# Altium footprint library TMC6140.PcbLib: 1 footprints
Each footprint in its own frame and in the unit in brackets; x right, y up, seen from the top. Pads: shape width x height; smd on the part's side, far side on the other; paste and mask are expansions set on the pad; w line width, h text height; cw(c..) or ccw(c..) is an arc to the next point about the centre after c.
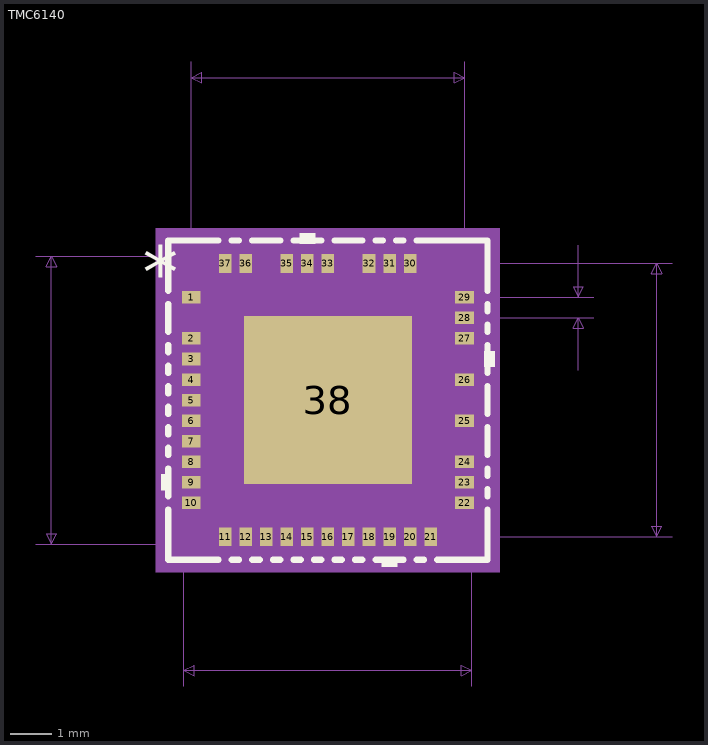
[diagram p0: the footprint, top view; thin cyan lines are the x and y axes]

## TMC6140 [mil]
pads (38):
  rect 18x12 smd paste-6 mask+0: 1(2024.09,1778.45) 2(2024.09,1739.07) 3(2024.09,1719.38) 4(2024.09,1699.69) 5(2024.09,1680) 6(2024.09,1660.31) 7(2024.09,1640.62) 8(2024.09,1620.93) 9(2024.09,1601.24) 10(2024.09,1581.55) 22(2285.91,1581.55) 23(2285.91,1601.24) 24(2285.91,1620.93) 25(2285.91,1660.31) 26(2285.91,1699.69) 27(2285.91,1739.07) 28(2285.91,1758.76) 29(2285.91,1778.45)
  rect 12x18 smd paste-6 mask+0: 11(2056.55,1549.1) 12(2076.24,1549.1) 13(2095.93,1549.1) 14(2115.62,1549.1) 15(2135.31,1549.1) 16(2155,1549.1) 17(2174.69,1549.1) 18(2194.38,1549.1) 19(2214.07,1549.1) 20(2233.76,1549.1) 21(2253.45,1549.1) 30(2233.76,1810.9) 31(2214.07,1810.9) 32(2194.38,1810.9) 33(2155,1810.9) 34(2135.31,1810.9) 35(2115.62,1810.9) 36(2076.24,1810.9) 37(2056.55,1810.9)
  rect 161x161 smd paste-80.5 mask+0: 38(2155,1680)
Top Overlay:
  region: 2005.09,1608.74 1995.09,1608.74 1995.09,1593.74 2005.09,1593.74
  region: 2221.57,1530.1 2206.57,1530.1 2206.57,1520.1 2221.57,1520.1
  region: 2304.91,1726.88 2314.91,1726.88 2314.91,1711.88 2304.91,1711.88
  region: 2142.81,1829.9 2127.81,1829.9 2127.81,1839.9 2142.81,1839.9
  lines w6: 2002,1575.17 2002,1527 2050.19,1527 ; 2002,1587.93 2002,1594.86 ; 2002,1607.62 2002,1614.55 ; 2002,1627.31 2002,1634.24 ; 2002,1647 2002,1653.93 ; 2002,1666.69 2002,1673.62 ; 2002,1686.38 2002,1693.31 ; 2002,1706.07 2002,1713 ; 2002,1725.76 2002,1732.69 ; 2002,1745.45 2002,1772.07 ; 2002,1784.83 2002,1833 2050.19,1833 ; 2062.91,1527 2069.88,1527 ; 2062.91,1833 2069.88,1833 ; 2082.6,1527 2089.57,1527 ; 2082.6,1833 2109.26,1833 ; 2102.29,1527 2109.26,1527 ; 2121.98,1527 2128.95,1527 ; 2121.98,1833 2128.95,1833 ; 2141.67,1527 2148.64,1527 ; 2141.67,1833 2148.64,1833 ; 2161.36,1527 2168.33,1527 ; 2161.36,1833 2188.02,1833 ; 2181.05,1527 2188.02,1527 ; 2200.74,1527 2207.71,1527 ; 2200.74,1833 2207.71,1833 ; 2220.43,1527 2227.4,1527 ; 2220.43,1833 2227.4,1833 ; 2240.12,1527 2247.09,1527 ; 2240.12,1833 2308,1833 2308,1784.83 ; 2259.81,1527 2308,1527 2308,1575.17 ; 2308,1587.93 2308,1594.86 ; 2308,1607.62 2308,1614.55 ; 2308,1627.31 2308,1653.93 ; 2308,1666.69 2308,1693.31 ; 2308,1706.07 2308,1732.69 ; 2308,1745.45 2308,1752.38 ; 2308,1765.14 2308,1772.07
  text "*" at 1977.59,1778.3 h50
Top Paste:
  region: 2124.23,1756.56 2078.44,1756.56 2078.44,1710.77 2124.23,1710.77
  region: 2124.23,1702.9 2078.44,1702.9 2078.44,1657.1 2124.23,1657.1
  region: 2124.23,1649.23 2078.44,1649.23 2078.44,1603.44 2124.23,1603.44
  region: 2177.9,1756.56 2132.1,1756.56 2132.1,1710.77 2177.9,1710.77
  region: 2177.9,1702.9 2132.1,1702.9 2132.1,1657.1 2177.9,1657.1
  region: 2177.9,1649.23 2132.1,1649.23 2132.1,1603.44 2177.9,1603.44
  region: 2231.56,1756.56 2185.77,1756.56 2185.77,1710.77 2231.56,1710.77
  region: 2231.56,1702.9 2185.77,1702.9 2185.77,1657.1 2231.56,1657.1
  region: 2231.56,1649.23 2185.77,1649.23 2185.77,1603.44 2231.56,1603.44
Mechanical 5:
  region: 2319.91,1515.1 1990.09,1515.1 1990.09,1844.9 2319.91,1844.9
Mechanical 7:
  lines w1: 1875.09,1542 2293,1542 ; 1875.09,1818 2293,1818 2293,1406 ; 2017,1406 2017,1818 ; 2024.09,1778.45 2024.09,2004 ; 2253.45,1549.1 2484.91,1549.1 ; 2253.45,1810.9 2484.91,1810.9 ; 2285.91,1758.76 2409.91,1758.76 ; 2285.91,2004 2285.91,1778.45 2409.91,1778.45 ; 2394.91,1708.76 2394.91,1758.76 ; 2394.91,1828.45 2394.91,1778.45 ; 1890.09,1542 1890.09,1818 ; 1890.09,1542 1885.09,1552 1895.09,1552 1890.09,1542 ; 1890.09,1818 1885.09,1808 1895.09,1808 1890.09,1818 ; 2017,1421 2293,1421 ; 2017,1421 2027,1426 2027,1416 2017,1421 ; 2024.09,1989 2285.91,1989 ; 2024.09,1989 2034.09,1994 2034.09,1984 2024.09,1989 ; 2285.91,1989 2275.91,1994 2275.91,1984 2285.91,1989 ; 2293,1421 2283,1426 2283,1416 2293,1421 ; 2394.91,1758.76 2389.91,1748.76 2399.91,1748.76 2394.91,1758.76 ; 2394.91,1778.45 2389.91,1788.45 2399.91,1788.45 2394.91,1778.45 ; 2469.91,1549.1 2469.91,1810.9 ; 2469.91,1549.1 2464.91,1559.1 2474.91,1559.1 2469.91,1549.1 ; 2469.91,1810.9 2464.91,1800.9 2474.91,1800.9 2469.91,1810.9
  text "Default Padstyle: RX12Y18D0T" at 1805,1296 h50
  text "Heat Tab Padstyle: RX161Y161D0T" at 1767.5,1236 h50
  text "Alt 1 Padstyle: OX60Y90D30P" at 1817.5,1116 h50
  text "Alt 2 Padstyle: OX90Y60D30P" at 1817.5,1056 h50
  text "0.02in/0.5mm" at 2414.91,1756.11 h25
  text "0.262in/6.65mm" at 2067.5,2009 h25
  text "0.262in/6.65mm" at 2489.91,1667.5 h25
  text "0.276in/7.01mm" at 1695.09,1667.5 h25
  text "0.276in/7.01mm" at 2067.5,1376 h25
Mechanical 13:
  lines w1: 2017,1768 2067,1818 ; 2017,1542 2293,1542 2293,1818 2017,1818 2017,1542
  text "*" at 2030.59,1763.3 h50
Mechanical 15:
  region: 2040.55,1532 2007,1532 2007,1565.55 2005.09,1565.55 2005.09,1794.45 2007,1794.45 2007,1828 2040.55,1828 2040.55,1829.9 2269.45,1829.9 2269.45,1828 2303,1828 2303,1794.45 2304.91,1794.45 2304.91,1565.55 2303,1565.55 2303,1532 2269.45,1532 2269.45,1530.1 2040.55,1530.1
  lines w6: 2005.09,1565.55 2007,1565.55 2007,1532 2040.55,1532 2040.55,1530.1 2269.45,1530.1 2269.45,1532 2303,1532 2303,1565.55 2304.91,1565.55 2304.91,1794.45 2303,1794.45 2303,1828 2269.45,1828 2269.45,1829.9 2040.55,1829.9 2040.55,1828 2007,1828 2007,1794.45 2005.09,1794.45 2005.09,1565.55
3D body: height 10, standoff 0, extent 2155,1680 2165,1690
3D body "QFN_140-LA_TRI.step": height 35.12, standoff 0, extent 2015.01,1540.01 2295.01,1820.01